# EAGLE library part 6120XX21721_61203421721 (library WR-BHD)
WR-BHD 2.54 mm Male Angled Box Header KIND PROPERTIES: Pitch 2.54 mm Gender:Male MATERIAL PROPERTIES: Insulator Material:PBT Insulator Flammability Rating UL94 V-0 Insulator Color:Black Contact Material :Copper Alloy Contact Plating :Gold Contact Type: Stamped GENERAL INFORMATION: Operating Temperature:-40 °C up to +125 °C Compliance:RoHS Working Voltage: 250 V (AC) Withstanding Voltage:500 V (AC) Contact Resistance: 20 mΩ Insulation Resistance:1000 MΩ CERTIFICATION: UL Approval:E323964 PACKAGING PROPERTIES Packaging :Tray <https://www.we-online.de/katalog/media/o32888v209%20Family_WR-BHD_6120xx21721.jpg> Details see: https://www.we-online.de/katalog/en/em/BHD_2_54_MALE_ANGLED_BOX_HEADER_6120XX21721 Updated by Yingchun,Shan 2019-10-29 2019 (C) Würth Elektronik
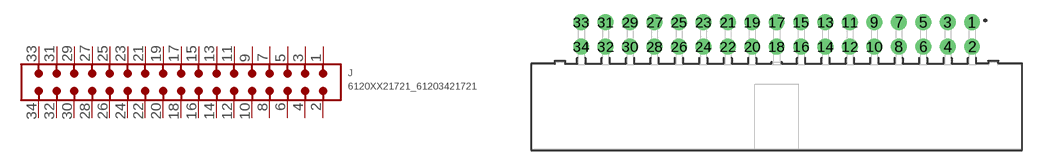
[diagram p41: symbol with the pads of 61203421721; footprint 61203421721]

Designator prefix J

## 6120XX21721_61203421721 (CONTACT-RESISTANCE: 20mOhm; DATASHEET-URL: https://www.we-online.com/redexpert/spec/61203421721?ae; GENDER: Male; IR: 3A; LENGTH: 58.46mm; MOUNT: THT; PACKAGING: Tray; PART-NUMBER: 61203421721; PINS: 34; PITCH: 2.54mm; TYPE: Angled; VALUE: 61203421721; WORKING-VOLTAGE: 250V(AC))  [61203421721]
1  1  pas
2  2  pas
3  3  pas
4  4  pas
5  5  pas
6  6  pas
7  7  pas
8  8  pas
9  9  pas
10  10  pas
11  11  pas
12  12  pas
13  13  pas
14  14  pas
15  15  pas
16  16  pas
17  17  pas
18  18  pas
19  19  pas
20  20  pas
21  21  pas
22  22  pas
23  23  pas
24  24  pas
25  25  pas
26  26  pas
27  27  pas
28  28  pas
29  29  pas
30  30  pas
31  31  pas
32  32  pas
33  33  pas
34  34  pas

## Footprint 61203421721 (pad centres in mm)
WR-BHD 2.54 mm Male Angled Box Header,34 Pins
drill 1.1: 1 20.32,8.805; 2 20.32,6.265; 3 17.78,8.805; 4 17.78,6.265; 5 15.24,8.805; 6 15.24,6.265; 7 12.7,8.805; 8 12.7,6.265; 9 10.16,8.805; 10 10.16,6.265; 11 7.62,8.805; 12 7.62,6.265; 13 5.08,8.805; 14 5.08,6.265; 15 2.54,8.805; 16 2.54,6.265; 17 0,8.805; 18 0,6.265; 19 -2.54,8.805; 20 -2.54,6.265; 21 -5.08,8.805; 22 -5.08,6.265; 23 -7.62,8.805; 24 -7.62,6.265; 25 -10.16,8.805; 26 -10.16,6.265; 27 -12.7,8.805; 28 -12.7,6.265; 29 -15.24,8.805; 30 -15.24,6.265; 31 -17.78,8.805; 32 -17.78,6.265; 33 -20.32,8.805; 34 -20.32,6.265